# EAGLE library part 610006243021 (library Wuerfel_WenN2016)
WR-PHD 2.54mm SMT Dual Socket Header Bottom Entry, 6 Pins
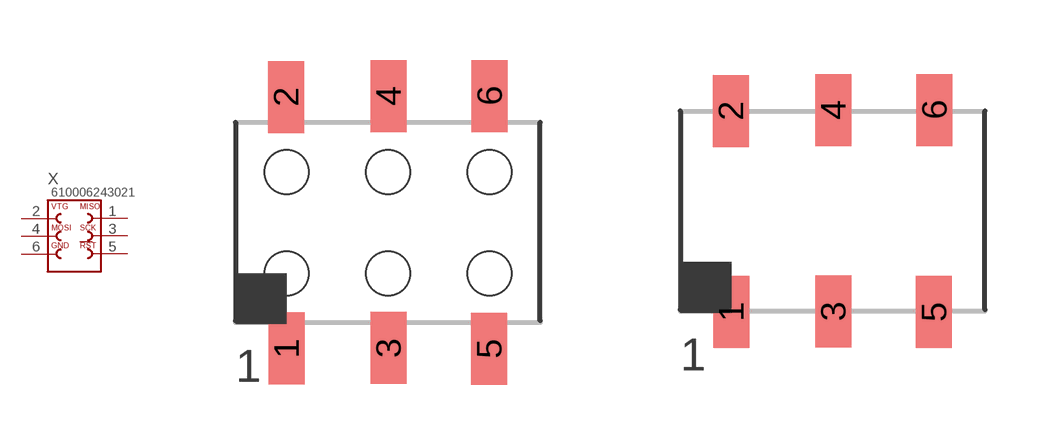
[diagram p0: symbol with the pads of 610006243021; footprints 610006243021, 610006243021_SMT]

Designator prefix X

## 610006243021  [610006243021]
1  1  pas
2  2  pas
3  3  pas
4  4  pas
5  5  pas
6  6  pas

## 610006243021SMT  [610006243021_SMT]
Pads as for 610006243021

## 610006243021SMT_WIDE  [610006243021_SMT_W]
Pads as for 610006243021

## 610006243021SMT_WR_MM  [690367280676]
Pads as for 610006243021

## 610006243021SMT_WR_MM_MIRROR  [690367280676_MIRROR]
Pads as for 610006243021

## Footprint 610006243021 (pad centres in mm)
WR-PHD 2.54mm SMT Dual Socket Header Bottom Entry, 6 Pins
smd 0.9 x 1.8: 1 -1.27,-3.15; 2 -1.28,3.14; 3 1.28,-3.14; 4 1.28,3.16; 5 3.8,-3.16; 6 3.81,3.17
hole 1.1 at -1.27,1.27
hole 1.1 at 1.27,1.27
hole 1.1 at 1.27,-1.27
hole 1.1 at -1.27,-1.27
hole 1.1 at 3.81,1.27
hole 1.1 at 3.81,-1.27

## Footprint 610006243021_SMT (pad centres in mm)
smd 0.9 x 1.8: 1 -2.54,-2.515; 2 -2.55,2.505; 3 0.01,-2.505; 4 0.01,2.525; 5 2.53,-2.525; 6 2.54,2.535

## Footprint 610006243021_SMT_W (pad centres in mm)
smd 0.9 x 1.956: 1 -2.54,-3.15; 2 -2.55,3.14; 3 0.01,-3.14; 4 0.01,3.16; 5 2.53,-3.16; 6 2.54,3.17

## Footprint 690367280676 (pad centres in mm)
WR-MM Female SMT Connector with Polarization, 6 pins
smd 1.5 x 3: 1 2.54,-2.25; 2 1.27,2.25; 3 0,-2.25; 4 -1.27,2.25; 5 -2.54,-2.25; 6 -3.81,2.25

## Footprint 690367280676_MIRROR (pad centres in mm)
smd 1.5 x 3: 1 -3.81,2.25; 2 -2.54,-2.25; 3 -1.27,2.25; 4 0,-2.25; 5 1.27,2.25; 6 2.54,-2.25